# Altium schematic symbol library ADA4530+AD8620+2D627.SchLib: 1 symbol
Pins are listed as number, name and electrical type; pins without a type are passive.

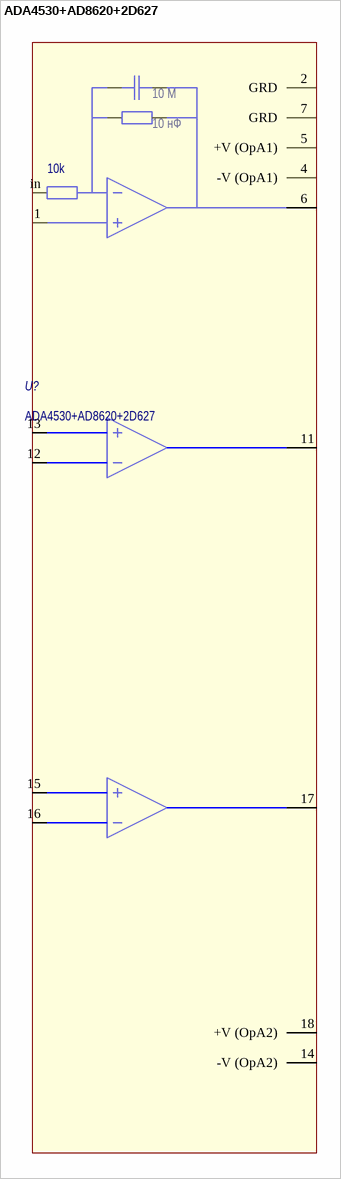
[diagram p0: symbol ADA4530+AD8620+2D627]

## ADA4530+AD8620+2D627
designator U?
footprint 401.16-3+soic
pins: 1, 1 2, 2, 2 GRD (power), 4 -V (OpA1) (power), 5 +V (OpA1) (power), 6 (power), 7 GRD (power), 11 (power), 12 4, 13 3, 14 -V (OpA2) (power), 15 4, 16 5, 17 (power), 18 +V (OpA2) (power), * 2, in 1, input *
text: 10 М; 10 нФ; 10k